# Altium footprint library HEADER 6X2PIN.PcbLib: 2 footprints
Each footprint in its own frame and in the unit in brackets; x right, y up, seen from the top. Pads: shape width x height; smd on the part's side, far side on the other; paste and mask are expansions set on the pad; w line width, h text height; cw(c..) or ccw(c..) is an arc to the next point about the centre after c.
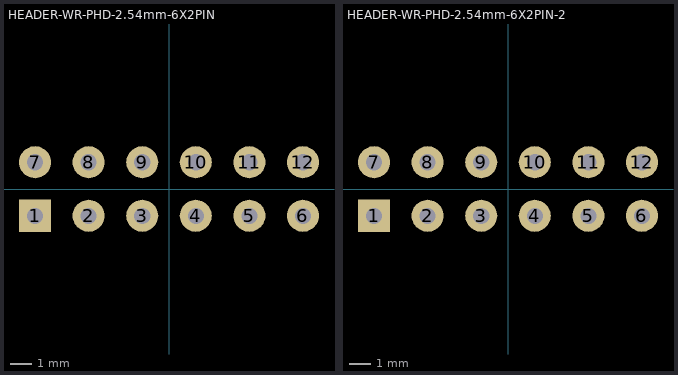
[diagram p0: the footprints below, top view; thin cyan lines are the x and y axes]

## HEADER-WR-PHD-2.54mm-6X2PIN [mil]
pads (12):
  rect 60x60 hole 30: 1(-250,-50)
  round 60 hole 30: 2(-150,-50) 3(-50,-50) 4(50,-50) 5(150,-50) 6(250,-50) 7(-250,50) 8(-150,50) 9(-50,50) 10(50,50) 11(150,50) 12(250,50)

## HEADER-WR-PHD-2.54mm-6X2PIN-2 [mil]
pads (12):
  rect 60x60 hole 30: 1(-250,-50)
  round 60 hole 30: 2(-150,-50) 3(-50,-50) 4(50,-50) 5(150,-50) 6(250,-50) 7(-250,50) 8(-150,50) 9(-50,50) 10(50,50) 11(150,50) 12(250,50)
3D body "HEADER-WR-PHD-2.54mm-6X2PIN.stp": height 336.22, standoff -118.11, extent -300,-100 300,100